# EAGLE library part LV47022P (library Audio-Power-amlifier V.2.0)
SANYO 4 x48W - Chanel BTL Power Amplifier
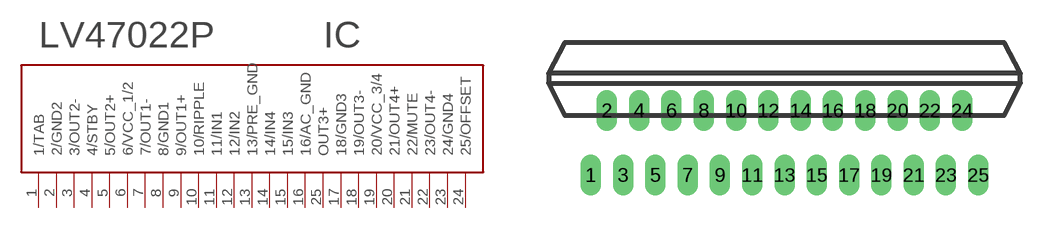
[diagram p155: symbol with the pads of HZIP25-P-1.00F; footprint HZIP25-P-1.00F]

Designator prefix IC

## LV47022P  [HZIP25-P-1.00F]
1  1/TAB
2  2/GND2  pwr
3  3/OUT2-  out
4  4/STBY  in
5  5/OUT2+  out
6  6/VCC_1/2  pwr
7  7/OUT1-  out
8  8/GND1  pwr
9  9/OUT1+  out
10  10/RIPPLE
11  11/IN1  in
12  12/IN2  in
13  13/PRE_GND  pwr
14  14/IN4  in
15  15/IN3  in
16  16/AC_GND  pwr
17  18/GND3  pwr
18  19/OUT3-  out
19  20/VCC_3/4  pwr
20  21/OUT4+  out
21  22/MUTE  in
22  23/OUT4-  out
23  24/GND4  pwr
24  25/OFFSET  in
25  OUT3+  out

## Footprint HZIP25-P-1.00F (pad centres in mm)
HZIP25-P-1.00F
drill 0.5 pad 1.27 long: 1 -12,-4; 2 -11,0; 3 -10,-4; 4 -9,0; 5 -8,-4; 6 -7,0; 7 -6,-4; 8 -5,0; 9 -4,-4; 10 -3,0; 11 -2,-4; 12 -1,0; 13 0,-4; 14 1,0; 15 2,-4; 16 3,0; 17 4,-4; 18 5,0; 19 6,-4; 20 7,0; 21 8,-4; 22 9,0; 23 10,-4; 24 11,0; 25 12,-4